# Altium schematic symbol library TL061ACD.SchLib: 1 symbol
Pins are listed as number, name and electrical type; pins without a type are passive.

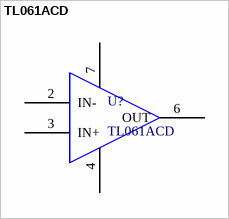
[diagram p0: symbol TL061ACD]

## TL061ACD
designator U?
footprint TL061ACD
pins: 2 IN-, 3 IN+, 4 VCC-, 6 OUT, 7 VCC+